# EAGLE library part STM32F050F_BASE_INO (library my-library)
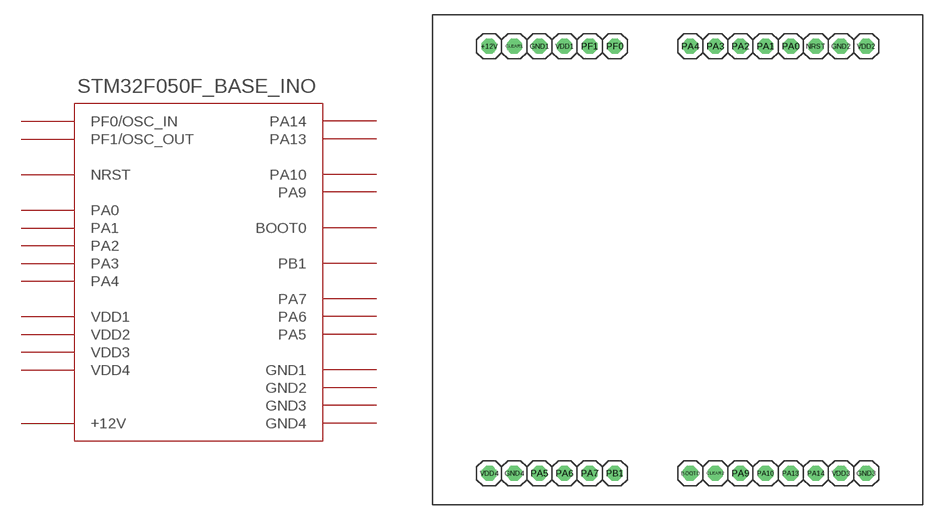
[diagram p7: symbol with the pads of STM32_BASE_INO; footprint STM32_BASE_INO]

Designator prefix -

## STM32F050F_BASE_INO  [STM32_BASE_INO]
+12V  +12V  pas
BOOT0  BOOT0  pas
GND1  GND1  pas
GND2  GND2  pas
GND3  GND3  pas
GND4  GND4  pas
NRST  NRST  pas
PA0  PA0  pas
PA1  PA1  pas
PA2  PA2  pas
PA3  PA3  pas
PA4  PA4  pas
PA5  PA5  pas
PA6  PA6  pas
PA7  PA7  pas
PA9  PA9  pas
PA10  PA10  pas
PA13  PA13  pas
PA14  PA14  pas
PB1  PB1  pas
PF0  PF0/OSC_IN  pas
PF1  PF1/OSC_OUT  pas
VDD1  VDD1  pas
VDD2  VDD2  pas
VDD3  VDD3  pas
VDD4  VDD4  pas

## Footprint STM32_BASE_INO (pad centres in mm)
drill 1.016 octagon: +12V 5.715,-3.175; BOOT0 26.035,-46.355; CLEAR1 8.255,-3.175; CLEAR2 28.575,-46.355; GND1 10.795,-3.175; GND2 41.275,-3.175; GND3 43.815,-46.355; GND4 8.255,-46.355; NRST 38.735,-3.175; PA0 36.195,-3.175; PA1 33.655,-3.175; PA2 31.115,-3.175; PA3 28.575,-3.175; PA4 26.035,-3.175; PA5 10.795,-46.355; PA6 13.335,-46.355; PA7 15.875,-46.355; PA9 31.115,-46.355; PA10 33.655,-46.355; PA13 36.195,-46.355; PA14 38.735,-46.355; PB1 18.415,-46.355; PF0 18.415,-3.175; PF1 15.875,-3.175; VDD1 13.335,-3.175; VDD2 43.815,-3.175; VDD3 41.275,-46.355; VDD4 5.715,-46.355